# EAGLE library part MAX712 (library ERIC)
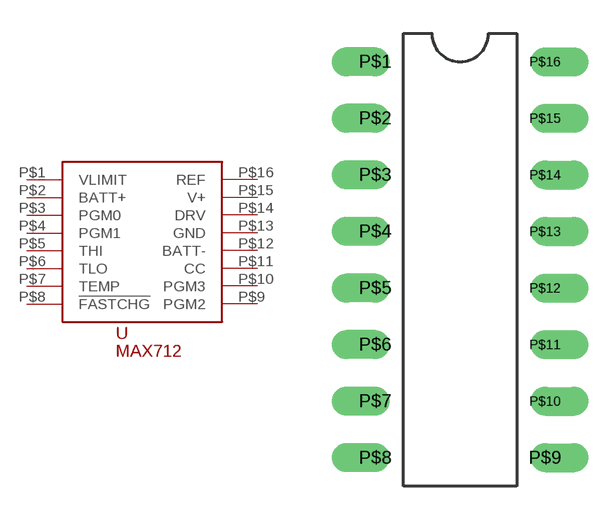
[diagram p1: symbol with the pads of DIP14; footprint DIP14]

Designator prefix -

## MAX712  [DIP14]
P$1  VLIMIT
P$2  BATT+
P$3  PGM0
P$4  PGM1
P$5  THI
P$6  TLO
P$7  TEMP
P$8  !FASTCHG!
P$9  PGM2
P$10  PGM3
P$11  CC
P$12  BATT-
P$13  GND
P$14  DRV
P$15  V+
P$16  REF

## Footprint DIP14 (pad centres in mm)
drill 0.8 offset: P$1 -3.81,8.89; P$2 -3.81,6.35; P$3 -3.81,3.81; P$4 -3.81,1.27; P$5 -3.81,-1.27; P$6 -3.81,-3.81; P$7 -3.81,-6.35; P$8 -3.81,-8.89; P$9 3.81,-8.89; P$10 3.81,-6.35; P$11 3.81,-3.81; P$12 3.81,-1.27; P$13 3.81,1.27; P$14 3.81,3.81; P$15 3.81,6.35; P$16 3.81,8.89